# EAGLE library part IFX780/84 (library pld-intel)
PLD
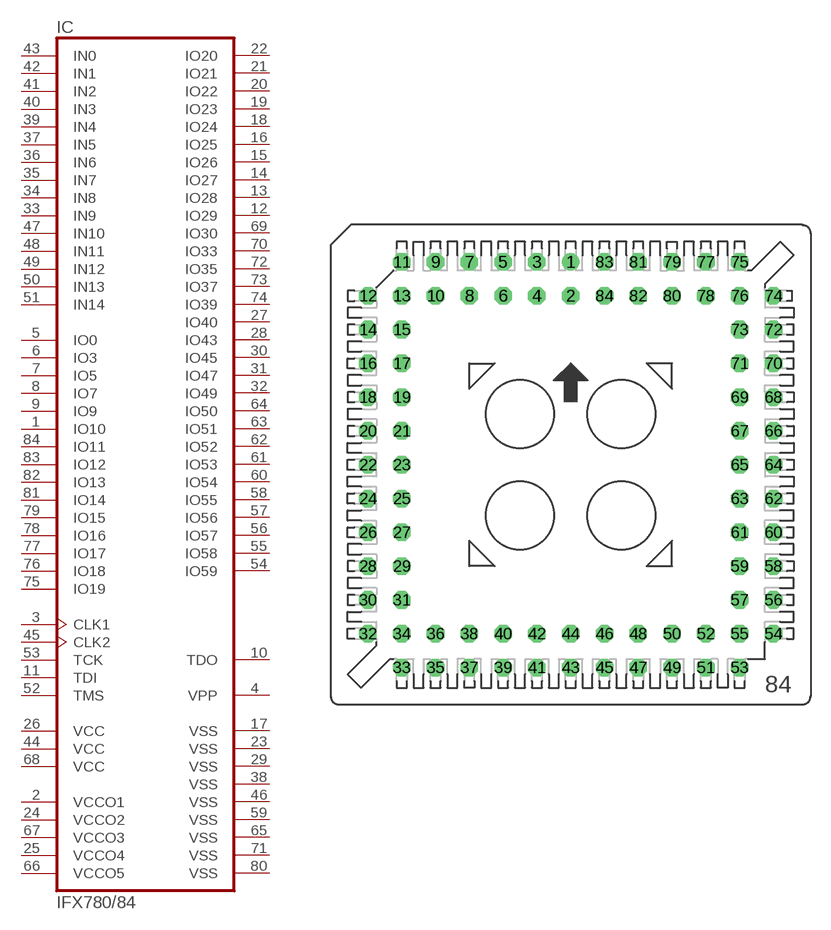
[diagram p2: symbol with the pads of S84; footprint S84]

Designator prefix IC

## IFX780/84 (OC_FARNELL: unknown; OC_NEWARK: unknown)  [S84]
1  IO10
2  VCCO1  sup
3  CLK1  in
4  VPP  sup
5  IO0
6  IO3
7  IO5
8  IO7
9  IO9
10  TDO  out
11  TDI  in
12  IO29
13  IO28
14  IO27
15  IO26
16  IO25
17  VSS  pwr
18  IO24
19  IO23
20  IO22
21  IO21
22  IO20
23  VSS  pwr
24  VCCO2  sup
25  VCCO4  sup
26  VCC  pwr
27  IO40
28  IO43
29  VSS  pwr
30  IO45
31  IO47
32  IO49
33  IN9  in
34  IN8  in
35  IN7  in
36  IN6  in
37  IN5  in
38  VSS  pwr
39  IN4  in
40  IN3  in
41  IN2  in
42  IN1  in
43  IN0  in
44  VCC  pwr
45  CLK2  in
46  VSS  pwr
47  IN10  in
48  IN11  in
49  IN12  in
50  IN13  in
51  IN14  in
52  TMS  in
53  TCK  in
54  IO59
55  IO58
56  IO57
57  IO56
58  IO55
59  VSS  pwr
60  IO54
61  IO53
62  IO52
63  IO51
64  IO50
65  VSS  pwr
66  VCCO5  sup
67  VCCO3  sup
68  VCC  pwr
69  IO30
70  IO33
71  VSS  pwr
72  IO35
73  IO37
74  IO39
75  IO19
76  IO18
77  IO17
78  IO16
79  IO15
80  VSS  pwr
81  IO14
82  IO13
83  IO12
84  IO11

## Footprint S84 (pad centres in mm)
PLCC SOCKET
drill 0.813: 1 0,15.24
drill 0.813 octagon: 2 0,12.7; 3 -2.54,15.24; 4 -2.54,12.7; 5 -5.08,15.24; 6 -5.08,12.7; 7 -7.62,15.24; 8 -7.62,12.7; 9 -10.16,15.24; 10 -10.16,12.7; 11 -12.7,15.24; 12 -15.24,12.7; 13 -12.7,12.7; 14 -15.24,10.16; 15 -12.7,10.16; 16 -15.24,7.62; 17 -12.7,7.62; 18 -15.24,5.08; 19 -12.7,5.08; 20 -15.24,2.54; 21 -12.7,2.54; 22 -15.24,0; 23 -12.7,0; 24 -15.24,-2.54; 25 -12.7,-2.54; 26 -15.24,-5.08; 27 -12.7,-5.08; 28 -15.24,-7.62; 29 -12.7,-7.62; 30 -15.24,-10.16; 31 -12.7,-10.16; 32 -15.24,-12.7; 33 -12.7,-15.24; 34 -12.7,-12.7; 35 -10.16,-15.24; 36 -10.16,-12.7; 37 -7.62,-15.24; 38 -7.62,-12.7; 39 -5.08,-15.24; 40 -5.08,-12.7; 41 -2.54,-15.24; 42 -2.54,-12.7; 43 0,-15.24; 44 0,-12.7; 45 2.54,-15.24; 46 2.54,-12.7; 47 5.08,-15.24; 48 5.08,-12.7; 49 7.62,-15.24; 50 7.62,-12.7; 51 10.16,-15.24; 52 10.16,-12.7; 53 12.7,-15.24; 54 15.24,-12.7; 55 12.7,-12.7; 56 15.24,-10.16; 57 12.7,-10.16; 58 15.24,-7.62; 59 12.7,-7.62; 60 15.24,-5.08; 61 12.7,-5.08; 62 15.24,-2.54; 63 12.7,-2.54; 64 15.24,0; 65 12.7,0; 66 15.24,2.54; 67 12.7,2.54; 68 15.24,5.08; 69 12.7,5.08; 70 15.24,7.62; 71 12.7,7.62; 72 15.24,10.16; 73 12.7,10.16; 74 15.24,12.7; 75 12.7,15.24; 76 12.7,12.7; 77 10.16,15.24; 78 10.16,12.7; 79 7.62,15.24; 80 7.62,12.7; 81 5.08,15.24; 82 5.08,12.7; 83 2.54,15.24; 84 2.54,12.7